# Altium footprint library PcbLib1.PcbLib: 8 footprints
Each footprint in its own frame and in the unit in brackets; x right, y up, seen from the top. Pads: shape width x height; smd on the part's side, far side on the other; paste and mask are expansions set on the pad; w line width, h text height; cw(c..) or ccw(c..) is an arc to the next point about the centre after c.
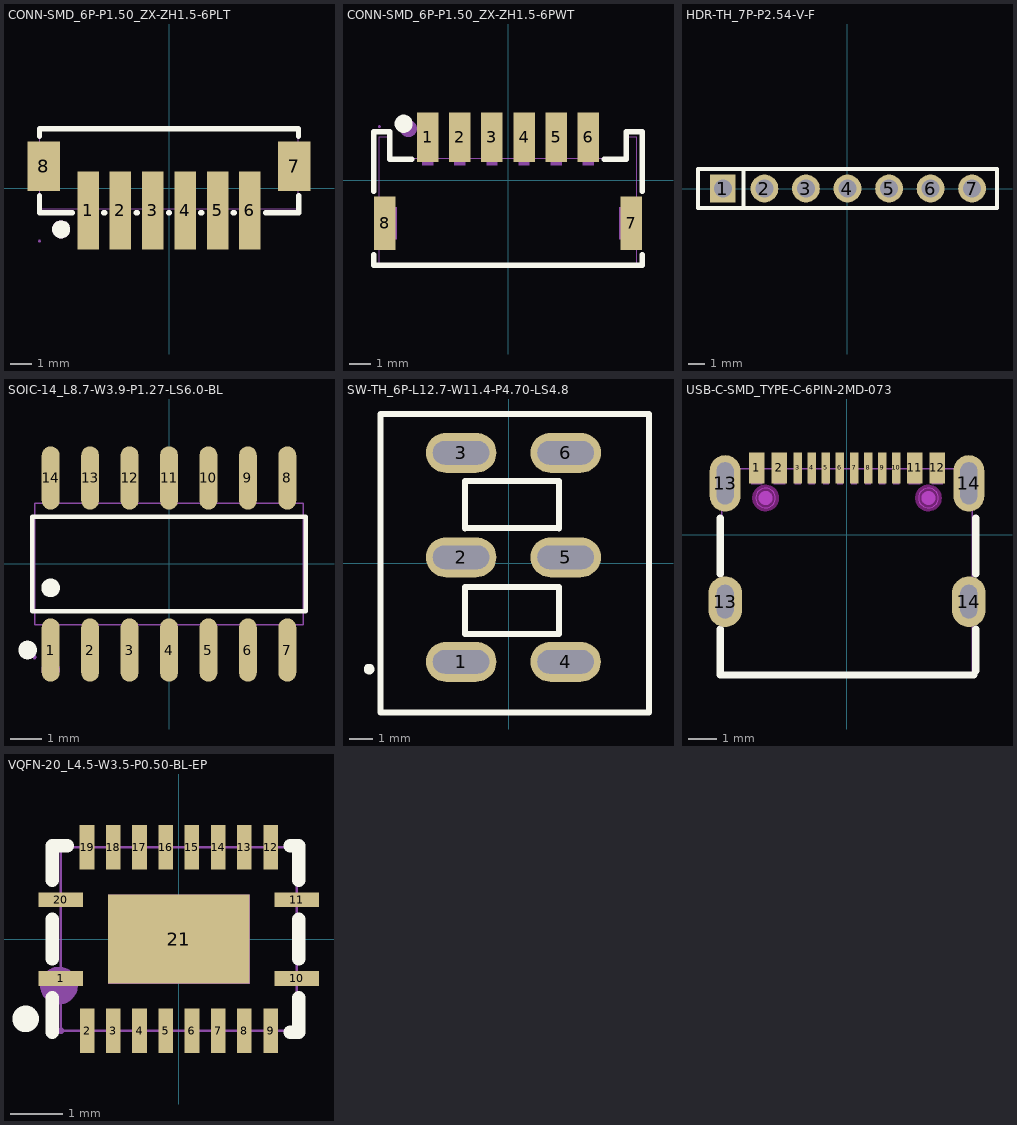
[diagram p0: the footprints below, top view; thin cyan lines are the x and y axes]

## CONN-SMD_6P-P1.50_ZX-ZH1.5-6PLT [mm]
pads (8):
  rect 1x3.6 smd paste+0 mask+0.05: 1(-3.75,-1.025) 2(-2.25,-1.025) 3(-0.75,-1.025) 4(0.75,-1.025) 5(2.25,-1.025) 6(3.75,-1.025)
  rect 1.5x2.3 smd paste+0 mask+0.05: 7(5.8,1.025) 8(-5.8,1.025)
Top Overlay:
  region: -5.412,-1.905 -5.412,-1.823 -5.349,-1.672 -5.234,-1.557 -5.083,-1.494 -4.919,-1.494 -4.768,-1.557 -4.653,-1.672 -4.59,-1.823 -4.59,-1.905 -4.59,-1.987 -4.653,-2.138 -4.768,-2.253 -4.919,-2.316 -5.083,-2.316 -5.234,-2.253 -5.349,-2.138 -5.412,-1.987
  lines w0.254: -6,-0.356 -6,-1.143 -4.481,-1.143 ; -6,2.406 -6,2.76 6,2.76 6,2.406 ; -3.019,-1.143 -2.981,-1.143 ; -1.519,-1.143 -1.481,-1.143 ; -0.019,-1.143 0.019,-1.143 ; 1.481,-1.143 1.519,-1.143 ; 2.981,-1.143 3.019,-1.143 ; 4.481,-1.143 6.017,-1.143 6.017,-0.356
Mechanical 6:
  region: -5.412,-1.905 -5.412,-1.823 -5.349,-1.672 -5.234,-1.557 -5.083,-1.494 -4.919,-1.494 -4.768,-1.557 -4.652,-1.672 -4.59,-1.823 -4.59,-1.905 -4.59,-1.987 -4.652,-2.138 -4.768,-2.253 -4.919,-2.316 -5.083,-2.316 -5.234,-2.253 -5.349,-2.138 -5.412,-1.987
Mechanical 15:
  region: -5.94,-2.45 -5.94,-2.425 -5.975,-2.39 -6.025,-2.39 -6.06,-2.425 -6.06,-2.45 -6.06,-2.475 -6.025,-2.51 -5.975,-2.51 -5.94,-2.475
  region: 3.5,0.35 4,0.35 4,-2.45 3.5,-2.45
  region: 2,0.35 2.5,0.35 2.5,-2.45 2,-2.45
  region: 0.5,0.35 1,0.35 1,-2.45 0.5,-2.45
  region: -1,0.35 -0.5,0.35 -0.5,-2.45 -1,-2.45
  region: -4,0.35 -3.5,0.35 -3.5,-2.45 -4,-2.45
  region: -2.5,0.35 -2,0.35 -2,-2.45 -2.5,-2.45
  region: 5.1,1.925 6,1.925 6,0.125 5.1,0.125
  region: -6,1.925 -5.1,1.925 -5.1,0.125 -6,0.125
  lines w0.051: -6,-0.95 -6,2.75 6,2.75 6,-0.95 -6,-0.95

## CONN-SMD_6P-P1.50_ZX-ZH1.5-6PWT [mm]
pads (8):
  rect 1x2.3 smd paste+0 mask+0.05: 1(-3.75,2) 2(-2.25,2) 3(-0.75,2) 4(0.75,2) 5(2.25,2) 6(3.75,2)
  rect 1x2.5 smd paste+0 mask+0.05: 7(5.75,-2) 8(-5.75,-2)
Top Overlay:
  region: -5.285,2.635 -5.285,2.717 -5.222,2.868 -5.107,2.983 -4.956,3.046 -4.792,3.046 -4.641,2.983 -4.525,2.868 -4.463,2.717 -4.463,2.635 -4.463,2.553 -4.525,2.402 -4.641,2.287 -4.792,2.224 -4.956,2.224 -5.107,2.287 -5.222,2.402 -5.285,2.553
  lines w0.254: -6.271,-3.48 -6.271,-3.969 6.27,-3.969 ; -6.271,-0.52 -6.271,2.254 -5.509,2.254 -5.509,0.984 -4.481,0.984 ; 4.481,0.984 5.509,0.984 5.509,2.254 6.271,2.254 6.271,-0.52 ; 6.271,-3.969 6.271,-3.48
Mechanical 6:
  circle w0.4: c-4.651,2.413 r0.2
Mechanical 15:
  region: 5.2,-1.25 6,-1.25 6,-2.75 5.2,-2.75
  region: 2.5,0.7 2,0.7 2,2.5 2.5,2.5
  region: 4,0.7 3.5,0.7 3.5,2.5 4,2.5
  region: -0.5,0.7 -1,0.7 -1,2.5 -0.5,2.5
  region: 1,0.7 0.5,0.7 0.5,2.5 1,2.5
  region: -3.5,0.7 -4,0.7 -4,2.5 -3.5,2.5
  region: -2,0.7 -2.5,0.7 -2.5,2.5 -2,2.5
  region: -6,-1.25 -5.2,-1.25 -5.2,-2.75 -6,-2.75
  region: -5.94,2.5 -5.94,2.525 -5.975,2.56 -6.025,2.56 -6.06,2.525 -6.06,2.5 -6.06,2.475 -6.025,2.44 -5.975,2.44 -5.94,2.475
  lines w0.051: -6,-3.969 -6,2.031 -5.5,2.031 -5.5,1.031 5.5,1.031 5.5,2.031 6,2.031 6,-3.969 -6,-3.969

## HDR-TH_7P-P2.54-V-F [mm]
pads (7):
  rect 1.575x1.7 hole 1.1: 1(-7.62,0)
  round 1.7 hole 1.1: 2(-5.08,0) 3(-2.54,0) 4(0,0) 5(2.54,0) 6(5.08,0) 7(7.62,0)
Top Overlay:
  lines w0.254: -6.35,-1.143 -6.35,1.143 ; -9.13,-1.2 -9.13,1.2 9.13,1.2 9.13,-1.2 -9.13,-1.2
Mechanical 15:
  region: 7.3,0.2 7.94,0.2 7.94,-0.2 7.3,-0.2
  region: 4.76,0.2 5.4,0.2 5.4,-0.2 4.76,-0.2
  region: 2.22,0.2 2.86,0.2 2.86,-0.2 2.22,-0.2
  region: -0.32,0.2 0.32,0.2 0.32,-0.2 -0.32,-0.2
  region: -2.86,0.2 -2.22,0.2 -2.22,-0.2 -2.86,-0.2
  region: -5.4,0.2 -4.76,0.2 -4.76,-0.2 -5.4,-0.2
  region: -7.94,-0.2 -7.94,0.2 -7.3,0.2 -7.3,-0.2
  region: -9.08,-1.25 -9.08,-1.225 -9.115,-1.19 -9.165,-1.19 -9.2,-1.225 -9.2,-1.25 -9.2,-1.275 -9.165,-1.31 -9.115,-1.31 -9.08,-1.275
  lines w0.051: -9.14,-1.25 9.14,-1.25 9.14,1.25 -9.14,1.25 -9.14,-1.25

## PCBComponent_1 [mm]

## SOIC-14_L8.7-W3.9-P1.27-LS6.0-BL [mm]
pads (14):
  oval 0.574x2.038 smd: 1(-3.81,-2.769) 2(-2.54,-2.769) 3(-1.27,-2.769) 4(0,-2.769) 5(1.27,-2.769) 6(2.54,-2.769) 7(3.81,-2.769) 8(3.81,2.769) 9(2.54,2.769) 10(1.27,2.769) 11(0,2.769) 12(-1.27,2.769) 13(-2.54,2.769) 14(-3.81,2.769)
Top Overlay:
  circle w0.3: c-4.549,-2.769 r0.15
  circle w0.3: c-3.81,-0.769 r0.15
  lines w0.152: -4.401,-1.521 4.401,-1.521 4.401,1.521 -4.401,1.521 -4.401,-1.521
Mechanical 6:
  circle w0.3: c-3.81,-3.4 r0.15
Mechanical 15:
  drawing of 33 lines, arcs and shapes, not listed

## SW-TH_6P-L12.7-W11.4-P4.70-LS4.8 [mm]
pads (6):
  oval 3x1.7 hole 1 slot 2.4 at 0 deg: 1(-2.032,-4.191) 2(-2.032,0.255) 3(-2.032,4.7) 4(2.413,-4.191) 5(2.415,0.255) 6(2.415,4.7)
Top Overlay:
  circle w0.254: c-5.946,-4.5 r0.1
  lines w0.254: -1.873,1.489 -1.873,3.508 2.127,3.508 2.127,1.489 ; -1.873,1.508 2.127,1.508 ; -5.456,-6.35 -5.456,6.35 5.964,6.35 5.964,-6.35 -5.456,-6.35 ; -1.873,-3 -1.873,-1.016 2.127,-1.016 2.127,-3 -1.873,-3
Mechanical 15:
  region: 3.315,-4.95 1.515,-4.95 1.515,-4.45 3.315,-4.45
  region: 3.315,-0.25 1.515,-0.25 1.515,0.25 3.315,0.25
  region: 3.315,4.45 1.515,4.45 1.515,4.95 3.315,4.95
  region: -2.921,-3.945 -1.121,-3.945 -1.121,-4.445 -2.921,-4.445
  region: -1.515,-0.25 -3.315,-0.25 -3.315,0.25 -1.515,0.25
  region: -1.515,4.45 -3.315,4.45 -3.315,4.95 -1.515,4.95
  region: -5.341,-6.35 -5.341,-6.325 -5.376,-6.29 -5.426,-6.29 -5.461,-6.325 -5.461,-6.35 -5.461,-6.375 -5.426,-6.41 -5.376,-6.41 -5.341,-6.375
  lines w0.051: -5.461,6.35 -5.461,-6.35 5.969,-6.35 5.969,6.35 -5.446,6.35

## USB-C-SMD_TYPE-C-6PIN-2MD-073 [mm]
pads (16):
  rect 0.55x1.1 smd paste-100 mask+0.05: 1(-3.2,2.375) 2(-2.4,2.375) 11(2.4,2.375) 12(3.2,2.375)
  rect 0.3x1.1 smd paste-100 mask+0.05: 3(-1.75,2.375) 4(-1.25,2.375) 5(-0.75,2.375) 6(-0.25,2.375) 7(0.25,2.375) 8(0.75,2.375) 9(1.25,2.375) 10(1.75,2.375)
  oval 1.2x1.8 hole 0.6 slot 1.2 at 90 deg paste+0 mask+0.05: 13(-4.325,-2.375) 14(4.325,-2.375)
  oval 1.1x2 hole 0.6 slot 1.5 at 90 deg paste+0 mask+0.05: 13(-4.325,1.825) 14(4.325,1.825)
Top Overlay:
  lines w0.254: -4.5,-3.356 -4.5,-4.975 4.5,-4.975 ; -4.5,-1.394 -4.5,0.594 ; 4.572,-4.826 4.572,-3.353 ; 4.572,-1.397 4.572,0.597
Top Paste:
  drawing of 16 lines, arcs and shapes, not listed
Keep-Out Layer:
  board cut-out: 3.24,1.305 3.239,1.374 3.185,1.5 3.086,1.597 2.959,1.649 2.821,1.649 2.694,1.597 2.596,1.5 2.541,1.374 2.54,1.305 2.541,1.236 2.596,1.11 2.694,1.013 2.821,0.961 2.959,0.961 3.086,1.013 3.185,1.11 3.239,1.236
  board cut-out: -2.54,1.305 -2.541,1.374 -2.595,1.5 -2.694,1.597 -2.821,1.649 -2.959,1.649 -3.086,1.597 -3.184,1.5 -3.239,1.374 -3.24,1.305 -3.239,1.236 -3.184,1.11 -3.086,1.013 -2.959,0.961 -2.821,0.961 -2.694,1.013 -2.595,1.11 -2.541,1.236
Keep-Out Layer:
  circle w0.254: c2.89,1.305 r0.35
  circle w0.025: c2.89,1.305 r0.35
  circle w0.254: c-2.89,1.305 r0.35
  circle w0.025: c-2.89,1.305 r0.35
Mechanical 1:
  circle w0.025: c2.89,1.305 r0.35
  circle w0.025: c-2.89,1.305 r0.35
Mechanical 6:
  circle w0.25: c2.89,1.305 r0.125
  circle w0.25: c-2.89,1.305 r0.125
Mechanical 15:
  region: 4.2,-2.025 4.45,-2.025 4.45,-2.725 4.2,-2.725
  region: -4.45,-2.025 -4.2,-2.025 -4.2,-2.725 -4.45,-2.725
  region: 4.2,2.349 4.45,2.349 4.45,1.249 4.2,1.249
  region: -4.45,2.349 -4.2,2.349 -4.2,1.249 -4.45,1.249
  region: 3,2.649 3.4,2.649 3.4,1.799 3,1.799
  region: 2.2,2.649 2.6,2.649 2.6,1.799 2.2,1.799
  region: -2.6,2.649 -2.2,2.649 -2.2,1.799 -2.6,1.799
  region: -3.4,2.649 -3,2.649 -3,1.799 -3.4,1.799
  region: 1.65,2.649 1.85,2.649 1.85,1.799 1.65,1.799
  region: 1.15,2.649 1.35,2.649 1.35,1.799 1.15,1.799
  region: 0.65,2.649 0.85,2.649 0.85,1.799 0.65,1.799
  region: 0.15,2.649 0.35,2.649 0.35,1.799 0.15,1.799
  region: -0.35,2.649 -0.15,2.649 -0.15,1.799 -0.35,1.799
  region: -1.35,2.649 -1.15,2.649 -1.15,1.799 -1.35,1.799
  region: -0.85,2.649 -0.65,2.649 -0.65,1.799 -0.85,1.799
  region: -1.85,2.649 -1.65,2.649 -1.65,1.799 -1.85,1.799
  region: -4.39,2.649 -4.39,2.674 -4.425,2.709 -4.475,2.709 -4.51,2.674 -4.51,2.649 -4.51,2.624 -4.475,2.589 -4.425,2.589 -4.39,2.624
  lines w0.051: -4.45,-5.001 4.45,-5.001 4.45,2.349 -4.45,2.349 -4.45,-5.001

## VQFN-20_L4.5-W3.5-P0.50-BL-EP [mm]
pads (21):
  rect 0.85x0.28 smd: 1(-2.25,-0.752) 10(2.25,-0.752) 11(2.25,0.748) 20(-2.25,0.75)
  rect 0.28x0.85 smd: 2(-1.749,-1.75) 3(-1.248,-1.75) 4(-0.749,-1.75) 5(-0.248,-1.75) 6(0.251,-1.75) 7(0.752,-1.75) 8(1.251,-1.75) 9(1.752,-1.75) 12(1.752,1.75) 13(1.251,1.75) 14(0.75,1.748) 15(0.25,1.748) 16(-0.25,1.748) 17(-0.75,1.748) 18(-1.25,1.748) 19(-1.75,1.748)
  rect 2.7x1.7 smd: 21(0,-0.002)
Top Overlay:
  circle w0.254: c-2.921,-1.524 r0.127
  lines w0.254: -2.413,-1.778 -2.413,-1.123 ; -2.413,-0.381 -2.413,0.379 ; -2.413,1.121 -2.413,1.778 -2.121,1.778 ; 2.123,-1.778 2.286,-1.778 2.286,-1.123 ; 2.123,1.778 2.286,1.778 2.286,1.119 ; 2.286,-0.381 2.286,0.377
Mechanical 6:
  circle w0.36: c-2.286,-0.889 r0.18
Mechanical 15:
  region: -2.19,-1.75 -2.19,-1.775 -2.225,-1.81 -2.275,-1.81 -2.31,-1.775 -2.31,-1.75 -2.31,-1.725 -2.275,-1.69 -2.225,-1.69 -2.19,-1.725
  region: -1.35,-0.852 -1.35,0.848 1.35,0.848 1.35,-0.852
  region: -1.629,-1.75 -1.869,-1.75 -1.869,-1.35 -1.629,-1.35
  region: -1.128,-1.75 -1.368,-1.75 -1.368,-1.35 -1.128,-1.35
  region: -0.629,-1.75 -0.869,-1.75 -0.869,-1.35 -0.629,-1.35
  region: -0.128,-1.75 -0.368,-1.75 -0.368,-1.35 -0.128,-1.35
  region: 0.371,-1.75 0.131,-1.75 0.131,-1.35 0.371,-1.35
  region: 0.872,-1.75 0.632,-1.75 0.632,-1.35 0.872,-1.35
  region: 1.371,-1.75 1.131,-1.75 1.131,-1.35 1.371,-1.35
  region: 1.872,-1.75 1.632,-1.75 1.632,-1.35 1.872,-1.35
  region: -1.872,1.746 -1.632,1.746 -1.632,1.346 -1.872,1.346
  region: -1.371,1.746 -1.131,1.746 -1.131,1.346 -1.371,1.346
  region: -0.872,1.746 -0.632,1.746 -0.632,1.346 -0.872,1.346
  region: -0.371,1.746 -0.131,1.746 -0.131,1.346 -0.371,1.346
  region: 0.128,1.746 0.368,1.746 0.368,1.346 0.128,1.346
  region: 0.629,1.746 0.869,1.746 0.869,1.346 0.629,1.346
  region: 1.128,1.746 1.368,1.746 1.368,1.346 1.128,1.346
  region: 1.629,1.746 1.869,1.746 1.869,1.346 1.629,1.346
  region: -2.248,0.629 -2.248,0.869 -1.848,0.869 -1.848,0.629
  region: -2.248,-0.874 -2.248,-0.634 -1.848,-0.634 -1.848,-0.874
  region: 2.248,0.87 2.248,0.63 1.848,0.63 1.848,0.87
  region: 2.248,-0.631 2.248,-0.871 1.848,-0.871 1.848,-0.631
  lines w0.051: -2.25,-1.75 2.25,-1.75 2.25,1.75 -2.25,1.75 -2.25,-1.75